# EAGLE library part MCP23017 (library Microchip)
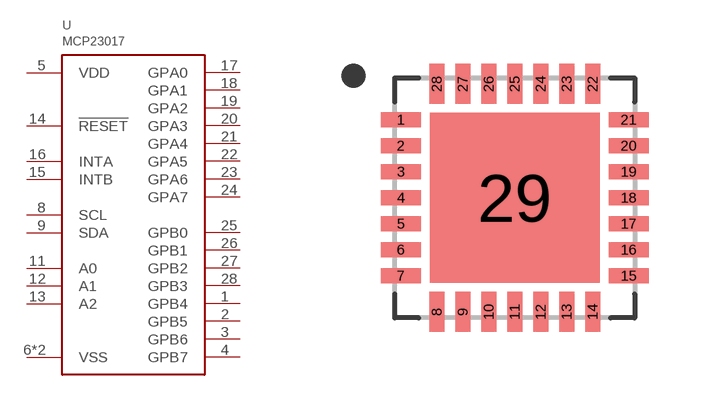
[diagram p41: symbol with the pads of QFN28; footprint QFN28]

Designator prefix U

## MCP23017  [QFN28]
1  GPB4
2  GPB5
3  GPB6
4  GPB7
5  VDD
6  VSS
8  SCL
9  SDA
11  A0
12  A1
13  A2
14  !RESET
15  INTB
16  INTA
17  GPA0
18  GPA1
19  GPA2
20  GPA3
21  GPA4
22  GPA5
23  GPA6
24  GPA7
25  GPB0
26  GPB1
27  GPB2
28  GPB3
29  VSS

## Footprint QFN28 (pad centres in mm)
smd 1 x 0.37: 1 -2.85,1.95; 2 -2.85,1.3; 3 -2.85,0.65; 4 -2.85,0; 5 -2.85,-0.65; 6 -2.85,-1.3; 7 -2.85,-1.95; 15 2.85,-1.95; 16 2.85,-1.3; 17 2.85,-0.65; 18 2.85,0; 19 2.85,0.65; 20 2.85,1.3; 21 2.85,1.95
smd 0.37 x 1: 8 -1.95,-2.85; 9 -1.3,-2.85; 10 -0.65,-2.85; 11 0,-2.85; 12 0.65,-2.85; 13 1.3,-2.85; 14 1.95,-2.85; 22 1.95,2.85; 23 1.3,2.85; 24 0.65,2.85; 25 0,2.85; 26 -0.65,2.85; 27 -1.3,2.85; 28 -1.95,2.85
smd 4.25 x 4.25: 29 0,0